# Altium schematic symbol library ADuM3402.Schlib: 1 symbol
Pins are listed as number, name and electrical type; pins without a type are passive.

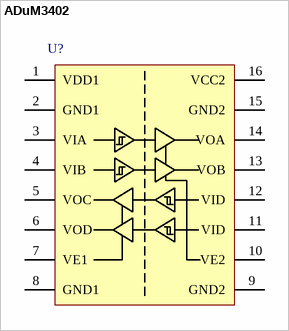
[diagram p0: symbol ADuM3402]

## ADuM3402
designator U?  (value not drawn)
Digital Isolator, Quad-Channel
pins: 1 VDD1, 2 GND1, 3 VIA, 4 VIB, 5 VOC, 6 VOD, 7 VE1, 8 GND1, 9 GND2, 10 VE2, 11 VID, 12 VID, 13 VOB, 14 VOA, 15 GND2, 16 VCC2